# Altium schematic symbol library 10M08SAREVERSIONTEST_Library.SchLib: 3 symbols
Pins are listed as number, name and electrical type; pins without a type are passive.

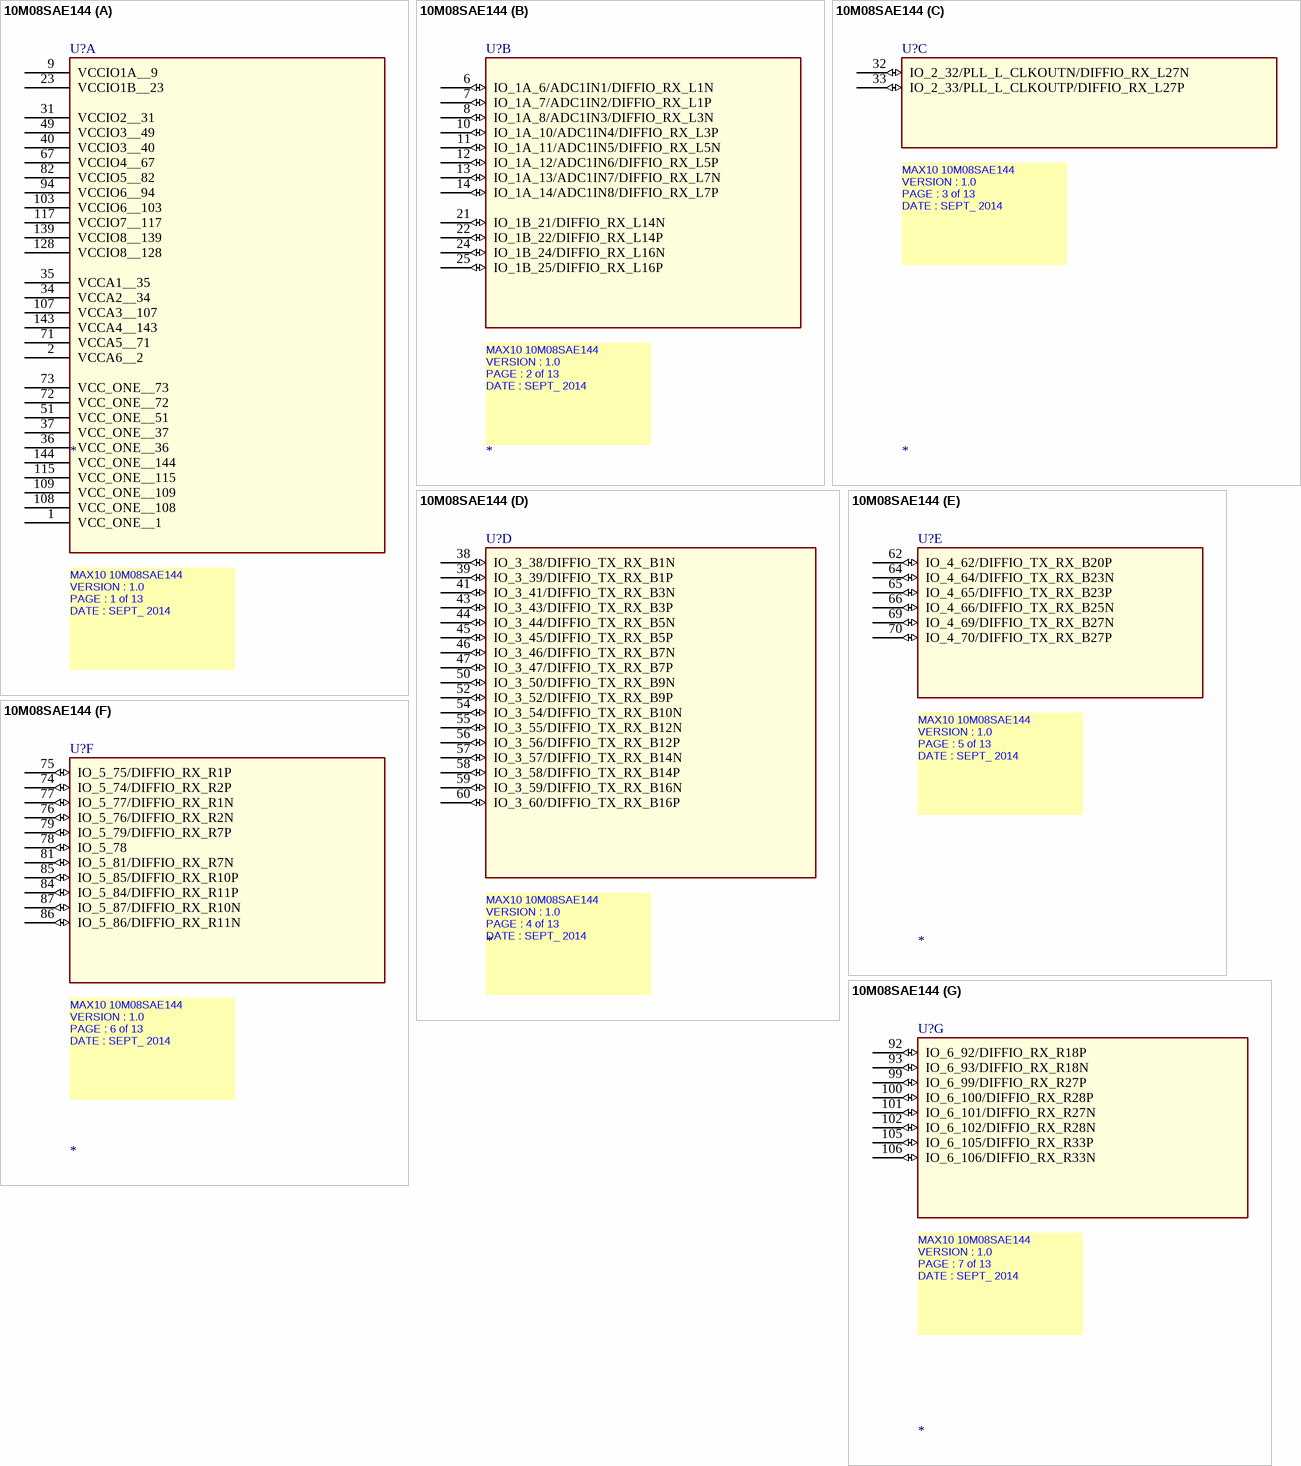
[diagram p0: symbol 10M08SAE144]

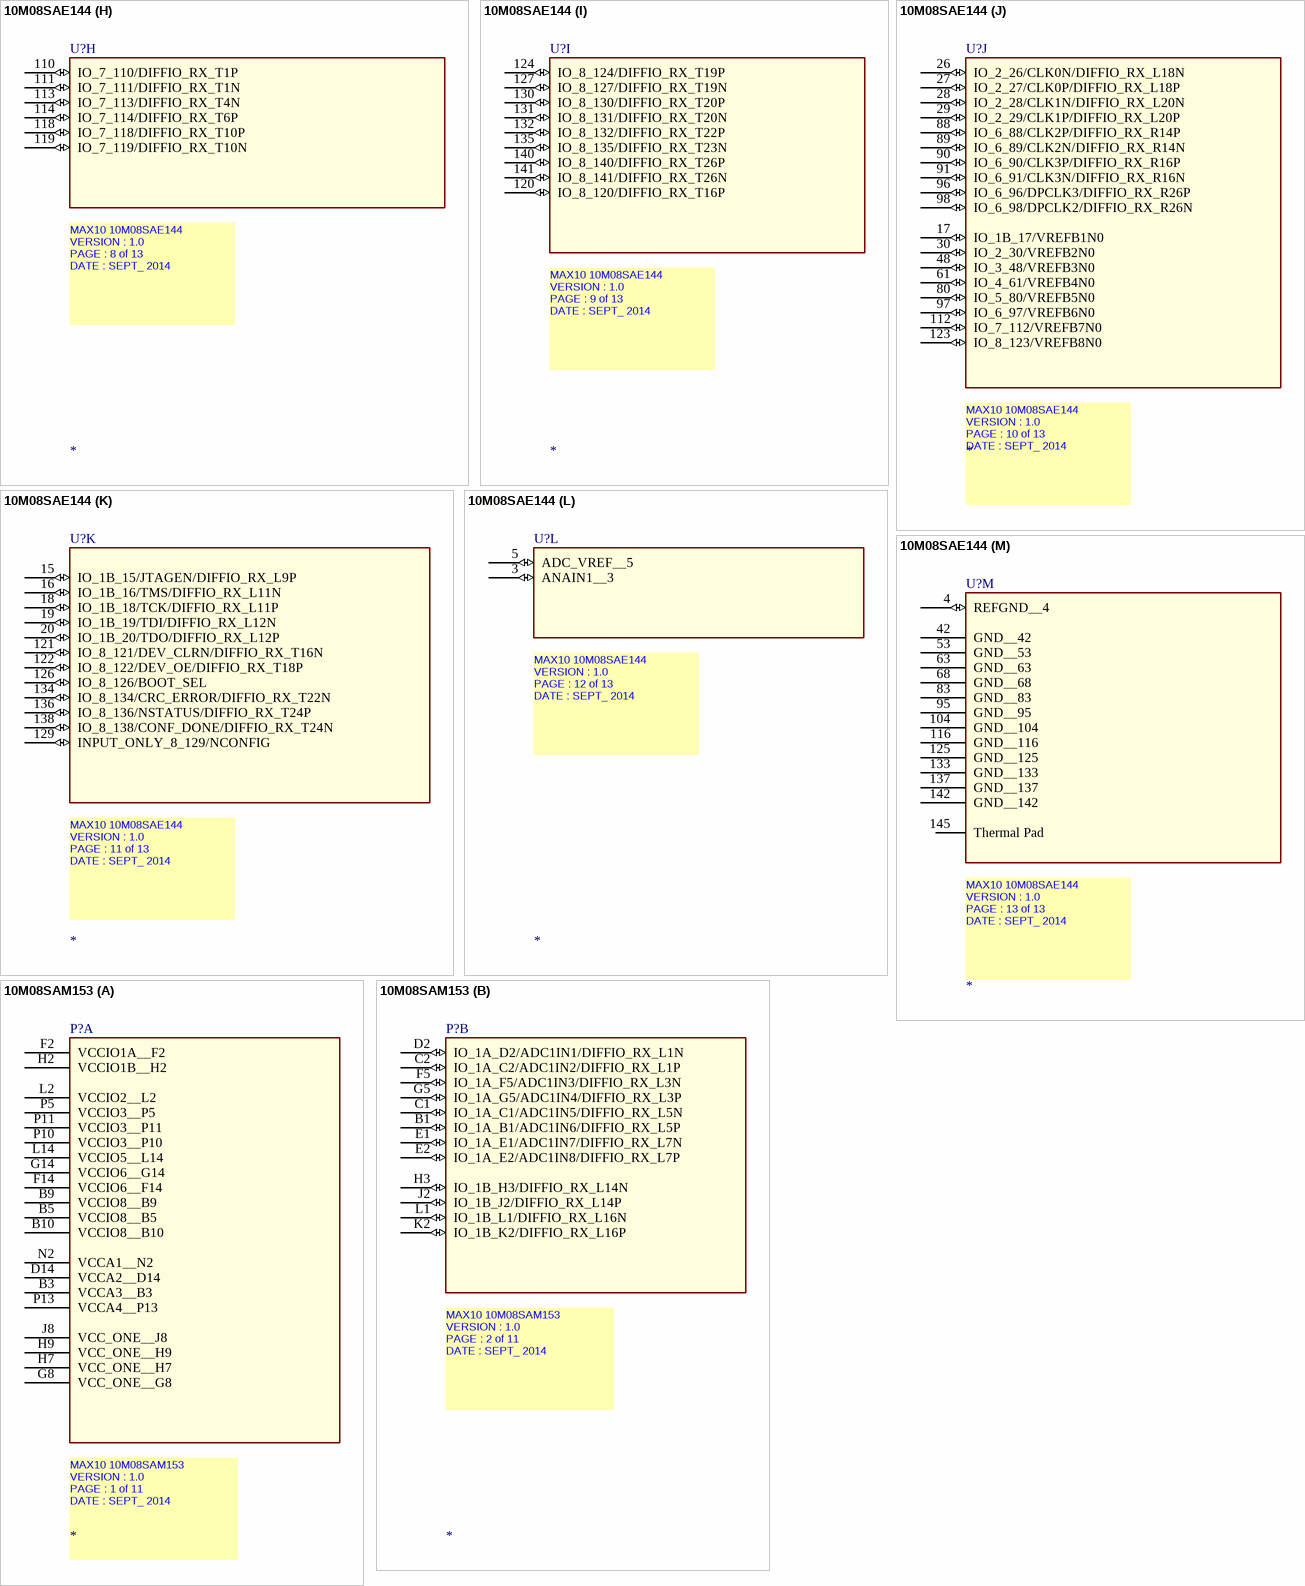
[diagram p1: symbols 10M08SAE144 to 10M08SAM153]

## 10M08SAE144
designator U?
SWAP_INFO: (S1+S2+S3+S4+S5+S6+S7+S8+S9+S10+S11+S12+S13); SPLIT_INST: TRUE
footprint SQFP50P2200X2200X165_HS-145N (SQFP, 144-Leads, Body 20.00x20.00mm, Pitch 0.50mm, Thermal Pad 5.15x5.15mm, IPC Medium Density)
part A pins: 1 VCC_ONE__1 (power), 2 VCCA6__2 (power), 9 VCCIO1A__9 (power), 23 VCCIO1B__23 (power), 31 VCCIO2__31 (power), 34 VCCA2__34 (power), 35 VCCA1__35 (power), 36 VCC_ONE__36 (power), 37 VCC_ONE__37 (power), 40 VCCIO3__40 (power), 49 VCCIO3__49 (power), 51 VCC_ONE__51 (power), 67 VCCIO4__67 (power), 71 VCCA5__71 (power), 72 VCC_ONE__72 (power), 73 VCC_ONE__73 (power), 82 VCCIO5__82 (power), 94 VCCIO6__94 (power), 103 VCCIO6__103 (power), 107 VCCA3__107 (power), 108 VCC_ONE__108 (power), 109 VCC_ONE__109 (power), 115 VCC_ONE__115 (power), 117 VCCIO7__117 (power), 128 VCCIO8__128 (power), 139 VCCIO8__139 (power), 143 VCCA4__143 (power), 144 VCC_ONE__144 (power)
part B pins: 6 IO_1A_6/ADC1IN1/DIFFIO_RX_L1N (io), 7 IO_1A_7/ADC1IN2/DIFFIO_RX_L1P (io), 8 IO_1A_8/ADC1IN3/DIFFIO_RX_L3N (io), 10 IO_1A_10/ADC1IN4/DIFFIO_RX_L3P (io), 11 IO_1A_11/ADC1IN5/DIFFIO_RX_L5N (io), 12 IO_1A_12/ADC1IN6/DIFFIO_RX_L5P (io), 13 IO_1A_13/ADC1IN7/DIFFIO_RX_L7N (io), 14 IO_1A_14/ADC1IN8/DIFFIO_RX_L7P (io), 21 IO_1B_21/DIFFIO_RX_L14N (io), 22 IO_1B_22/DIFFIO_RX_L14P (io), 24 IO_1B_24/DIFFIO_RX_L16N (io), 25 IO_1B_25/DIFFIO_RX_L16P (io)
part C pins: 32 IO_2_32/PLL_L_CLKOUTN/DIFFIO_RX_L27N (io), 33 IO_2_33/PLL_L_CLKOUTP/DIFFIO_RX_L27P (io)
part D pins: 38 IO_3_38/DIFFIO_TX_RX_B1N (io), 39 IO_3_39/DIFFIO_TX_RX_B1P (io), 41 IO_3_41/DIFFIO_TX_RX_B3N (io), 43 IO_3_43/DIFFIO_TX_RX_B3P (io), 44 IO_3_44/DIFFIO_TX_RX_B5N (io), 45 IO_3_45/DIFFIO_TX_RX_B5P (io), 46 IO_3_46/DIFFIO_TX_RX_B7N (io), 47 IO_3_47/DIFFIO_TX_RX_B7P (io), 50 IO_3_50/DIFFIO_TX_RX_B9N (io), 52 IO_3_52/DIFFIO_TX_RX_B9P (io), 54 IO_3_54/DIFFIO_TX_RX_B10N (io), 55 IO_3_55/DIFFIO_TX_RX_B12N (io), 56 IO_3_56/DIFFIO_TX_RX_B12P (io), 57 IO_3_57/DIFFIO_TX_RX_B14N (io), 58 IO_3_58/DIFFIO_TX_RX_B14P (io), 59 IO_3_59/DIFFIO_TX_RX_B16N (io), 60 IO_3_60/DIFFIO_TX_RX_B16P (io)
part E pins: 62 IO_4_62/DIFFIO_TX_RX_B20P (io), 64 IO_4_64/DIFFIO_TX_RX_B23N (io), 65 IO_4_65/DIFFIO_TX_RX_B23P (io), 66 IO_4_66/DIFFIO_TX_RX_B25N (io), 69 IO_4_69/DIFFIO_TX_RX_B27N (io), 70 IO_4_70/DIFFIO_TX_RX_B27P (io)
part F pins: 74 IO_5_74/DIFFIO_RX_R2P (io), 75 IO_5_75/DIFFIO_RX_R1P (io), 76 IO_5_76/DIFFIO_RX_R2N (io), 77 IO_5_77/DIFFIO_RX_R1N (io), 78 IO_5_78 (io), 79 IO_5_79/DIFFIO_RX_R7P (io), 81 IO_5_81/DIFFIO_RX_R7N (io), 84 IO_5_84/DIFFIO_RX_R11P (io), 85 IO_5_85/DIFFIO_RX_R10P (io), 86 IO_5_86/DIFFIO_RX_R11N (io), 87 IO_5_87/DIFFIO_RX_R10N (io)
part G pins: 92 IO_6_92/DIFFIO_RX_R18P (io), 93 IO_6_93/DIFFIO_RX_R18N (io), 99 IO_6_99/DIFFIO_RX_R27P (io), 100 IO_6_100/DIFFIO_RX_R28P (io), 101 IO_6_101/DIFFIO_RX_R27N (io), 102 IO_6_102/DIFFIO_RX_R28N (io), 105 IO_6_105/DIFFIO_RX_R33P (io), 106 IO_6_106/DIFFIO_RX_R33N (io)
part H pins: 110 IO_7_110/DIFFIO_RX_T1P (io), 111 IO_7_111/DIFFIO_RX_T1N (io), 113 IO_7_113/DIFFIO_RX_T4N (io), 114 IO_7_114/DIFFIO_RX_T6P (io), 118 IO_7_118/DIFFIO_RX_T10P (io), 119 IO_7_119/DIFFIO_RX_T10N (io)
part I pins: 120 IO_8_120/DIFFIO_RX_T16P (io), 124 IO_8_124/DIFFIO_RX_T19P (io), 127 IO_8_127/DIFFIO_RX_T19N (io), 130 IO_8_130/DIFFIO_RX_T20P (io), 131 IO_8_131/DIFFIO_RX_T20N (io), 132 IO_8_132/DIFFIO_RX_T22P (io), 135 IO_8_135/DIFFIO_RX_T23N (io), 140 IO_8_140/DIFFIO_RX_T26P (io), 141 IO_8_141/DIFFIO_RX_T26N (io)
part J pins: 17 IO_1B_17/VREFB1N0 (io), 26 IO_2_26/CLK0N/DIFFIO_RX_L18N (io), 27 IO_2_27/CLK0P/DIFFIO_RX_L18P (io), 28 IO_2_28/CLK1N/DIFFIO_RX_L20N (io), 29 IO_2_29/CLK1P/DIFFIO_RX_L20P (io), 30 IO_2_30/VREFB2N0 (io), 48 IO_3_48/VREFB3N0 (io), 61 IO_4_61/VREFB4N0 (io), 80 IO_5_80/VREFB5N0 (io), 88 IO_6_88/CLK2P/DIFFIO_RX_R14P (io), 89 IO_6_89/CLK2N/DIFFIO_RX_R14N (io), 90 IO_6_90/CLK3P/DIFFIO_RX_R16P (io), 91 IO_6_91/CLK3N/DIFFIO_RX_R16N (io), 96 IO_6_96/DPCLK3/DIFFIO_RX_R26P (io), 97 IO_6_97/VREFB6N0 (io), 98 IO_6_98/DPCLK2/DIFFIO_RX_R26N (io), 112 IO_7_112/VREFB7N0 (io), 123 IO_8_123/VREFB8N0 (io)
part K pins: 15 IO_1B_15/JTAGEN/DIFFIO_RX_L9P (io), 16 IO_1B_16/TMS/DIFFIO_RX_L11N (io), 18 IO_1B_18/TCK/DIFFIO_RX_L11P (io), 19 IO_1B_19/TDI/DIFFIO_RX_L12N (io), 20 IO_1B_20/TDO/DIFFIO_RX_L12P (io), 121 IO_8_121/DEV_CLRN/DIFFIO_RX_T16N (io), 122 IO_8_122/DEV_OE/DIFFIO_RX_T18P (io), 126 IO_8_126/BOOT_SEL (io), 129 INPUT_ONLY_8_129/NCONFIG (io), 134 IO_8_134/CRC_ERROR/DIFFIO_RX_T22N (io), 136 IO_8_136/NSTATUS/DIFFIO_RX_T24P (io), 138 IO_8_138/CONF_DONE/DIFFIO_RX_T24N (io)
part L pins: 3 ANAIN1__3 (io), 5 ADC_VREF__5 (io)
part M pins: 4 REFGND__4 (io), 42 GND__42 (power), 53 GND__53 (power), 63 GND__63 (power), 68 GND__68 (power), 83 GND__83 (power), 95 GND__95 (power), 104 GND__104 (power), 116 GND__116 (power), 125 GND__125 (power), 133 GND__133 (power), 137 GND__137 (power), 142 GND__142 (power), 145 Thermal Pad
part A text: MAX10 10M08SAE144 / VERSION : 1.0 / PAGE : 1 of 13 / DATE : SEPT_ 2014 /
part B text: MAX10 10M08SAE144 / VERSION : 1.0 / PAGE : 2 of 13 / DATE : SEPT_ 2014 /
part C text: MAX10 10M08SAE144 / VERSION : 1.0 / PAGE : 3 of 13 / DATE : SEPT_ 2014 /
part D text: MAX10 10M08SAE144 / VERSION : 1.0 / PAGE : 4 of 13 / DATE : SEPT_ 2014 /
part E text: MAX10 10M08SAE144 / VERSION : 1.0 / PAGE : 5 of 13 / DATE : SEPT_ 2014 /
part F text: MAX10 10M08SAE144 / VERSION : 1.0 / PAGE : 6 of 13 / DATE : SEPT_ 2014 /
part G text: MAX10 10M08SAE144 / VERSION : 1.0 / PAGE : 7 of 13 / DATE : SEPT_ 2014 /
part H text: MAX10 10M08SAE144 / VERSION : 1.0 / PAGE : 8 of 13 / DATE : SEPT_ 2014 /
part I text: MAX10 10M08SAE144 / VERSION : 1.0 / PAGE : 9 of 13 / DATE : SEPT_ 2014 /
part J text: MAX10 10M08SAE144 / VERSION : 1.0 / PAGE : 10 of 13 / DATE : SEPT_ 2014 /
part K text: MAX10 10M08SAE144 / VERSION : 1.0 / PAGE : 11 of 13 / DATE : SEPT_ 2014 /
part L text: MAX10 10M08SAE144 / VERSION : 1.0 / PAGE : 12 of 13 / DATE : SEPT_ 2014 /
part M text: MAX10 10M08SAE144 / VERSION : 1.0 / PAGE : 13 of 13 / DATE : SEPT_ 2014 /

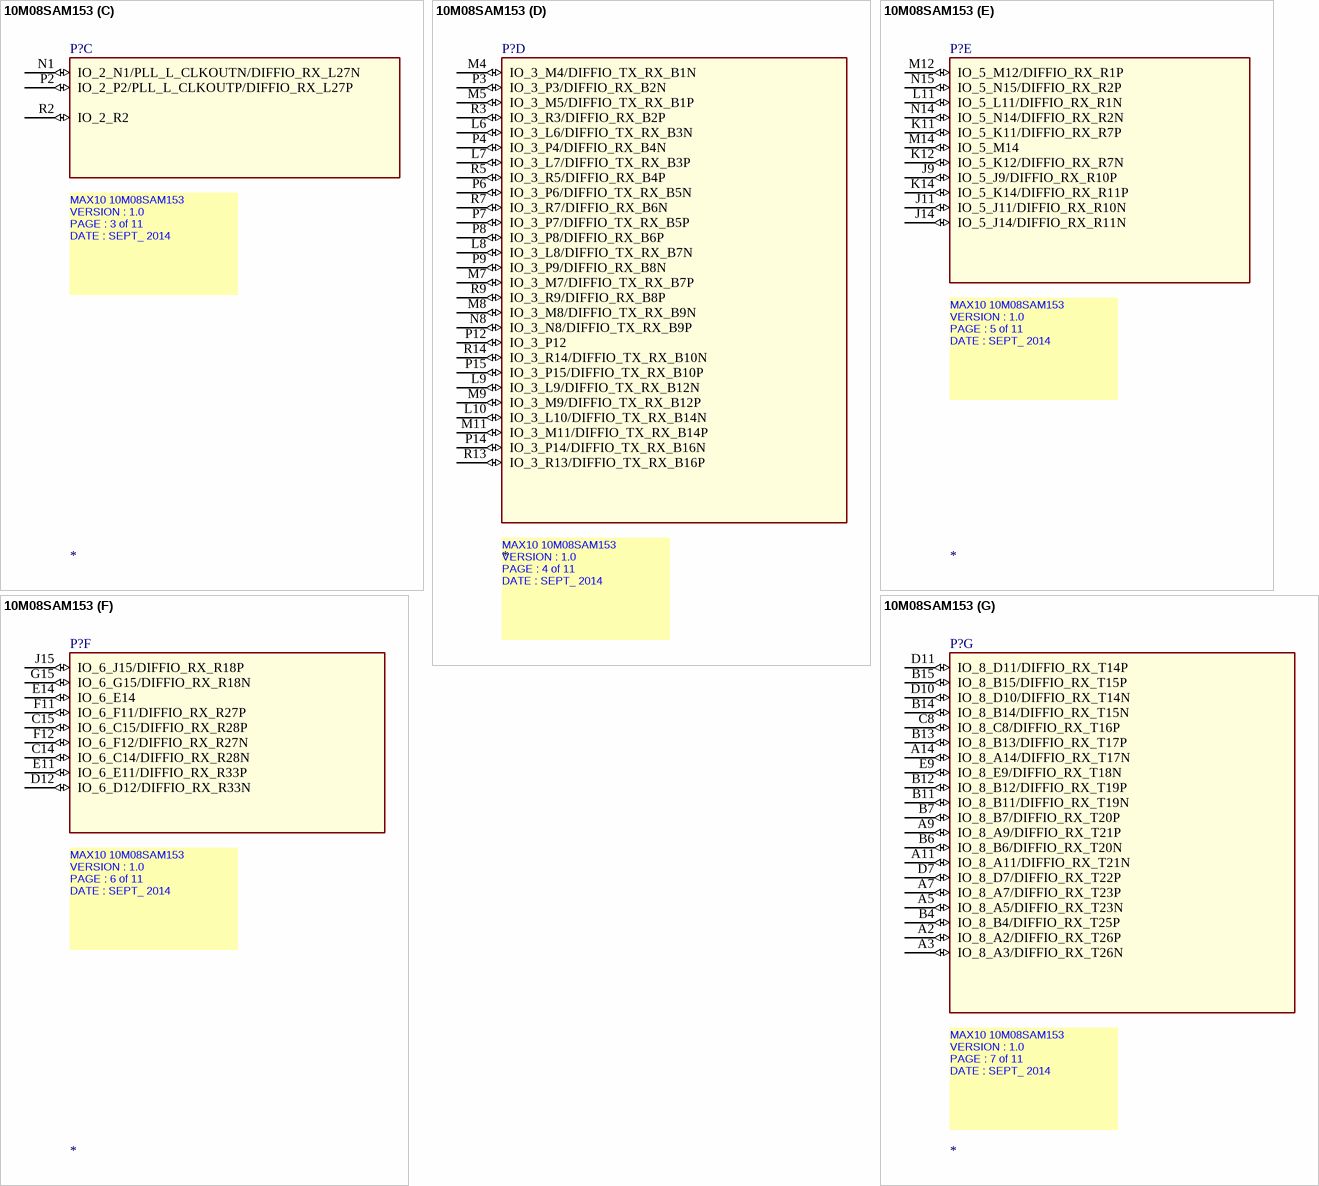
[diagram p2: symbol 10M08SAM153]

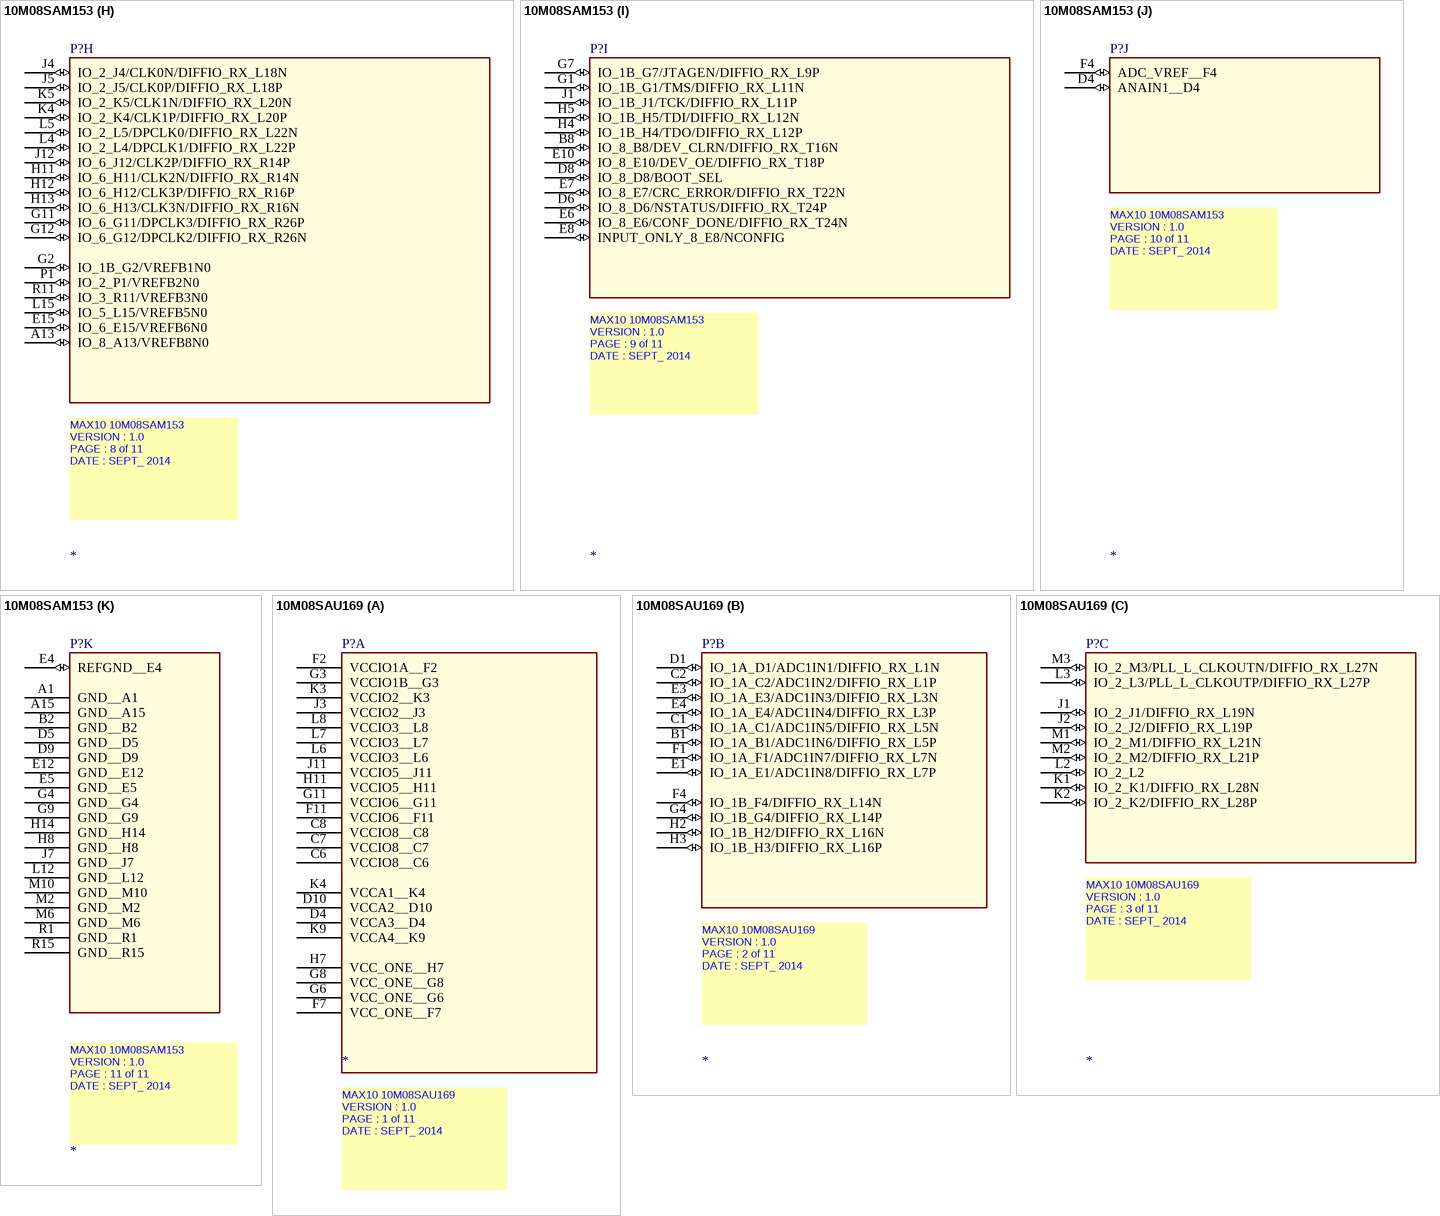
[diagram p3: symbols 10M08SAM153 to 10M08SAU169]

## 10M08SAM153
designator P?
SWAP_INFO: (S1+S2+S3+S4+S5+S6+S7+S8+S9+S10+S11); SPLIT_INST: TRUE
part A pins: B3 VCCA3__B3 (power), B5 VCCIO8__B5 (power), B9 VCCIO8__B9 (power), B10 VCCIO8__B10 (power), D14 VCCA2__D14 (power), F2 VCCIO1A__F2 (power), F14 VCCIO6__F14 (power), G8 VCC_ONE__G8 (power), G14 VCCIO6__G14 (power), H2 VCCIO1B__H2 (power), H7 VCC_ONE__H7 (power), H9 VCC_ONE__H9 (power), J8 VCC_ONE__J8 (power), L2 VCCIO2__L2 (power), L14 VCCIO5__L14 (power), N2 VCCA1__N2 (power), P5 VCCIO3__P5 (power), P10 VCCIO3__P10 (power), P11 VCCIO3__P11 (power), P13 VCCA4__P13 (power)
part B pins: B1 IO_1A_B1/ADC1IN6/DIFFIO_RX_L5P (io), C1 IO_1A_C1/ADC1IN5/DIFFIO_RX_L5N (io), C2 IO_1A_C2/ADC1IN2/DIFFIO_RX_L1P (io), D2 IO_1A_D2/ADC1IN1/DIFFIO_RX_L1N (io), E1 IO_1A_E1/ADC1IN7/DIFFIO_RX_L7N (io), E2 IO_1A_E2/ADC1IN8/DIFFIO_RX_L7P (io), F5 IO_1A_F5/ADC1IN3/DIFFIO_RX_L3N (io), G5 IO_1A_G5/ADC1IN4/DIFFIO_RX_L3P (io), H3 IO_1B_H3/DIFFIO_RX_L14N (io), J2 IO_1B_J2/DIFFIO_RX_L14P (io), K2 IO_1B_K2/DIFFIO_RX_L16P (io), L1 IO_1B_L1/DIFFIO_RX_L16N (io)
part C pins: N1 IO_2_N1/PLL_L_CLKOUTN/DIFFIO_RX_L27N (io), P2 IO_2_P2/PLL_L_CLKOUTP/DIFFIO_RX_L27P (io), R2 IO_2_R2 (io)
part D pins: L6 IO_3_L6/DIFFIO_TX_RX_B3N (io), L7 IO_3_L7/DIFFIO_TX_RX_B3P (io), L8 IO_3_L8/DIFFIO_TX_RX_B7N (io), L9 IO_3_L9/DIFFIO_TX_RX_B12N (io), L10 IO_3_L10/DIFFIO_TX_RX_B14N (io), M4 IO_3_M4/DIFFIO_TX_RX_B1N (io), M5 IO_3_M5/DIFFIO_TX_RX_B1P (io), M7 IO_3_M7/DIFFIO_TX_RX_B7P (io), M8 IO_3_M8/DIFFIO_TX_RX_B9N (io), M9 IO_3_M9/DIFFIO_TX_RX_B12P (io), M11 IO_3_M11/DIFFIO_TX_RX_B14P (io), N8 IO_3_N8/DIFFIO_TX_RX_B9P (io), P3 IO_3_P3/DIFFIO_RX_B2N (io), P4 IO_3_P4/DIFFIO_RX_B4N (io), P6 IO_3_P6/DIFFIO_TX_RX_B5N (io), P7 IO_3_P7/DIFFIO_TX_RX_B5P (io), P8 IO_3_P8/DIFFIO_RX_B6P (io), P9 IO_3_P9/DIFFIO_RX_B8N (io), P12 IO_3_P12 (io), P14 IO_3_P14/DIFFIO_TX_RX_B16N (io), P15 IO_3_P15/DIFFIO_TX_RX_B10P (io), R3 IO_3_R3/DIFFIO_RX_B2P (io), R5 IO_3_R5/DIFFIO_RX_B4P (io), R7 IO_3_R7/DIFFIO_RX_B6N (io), R9 IO_3_R9/DIFFIO_RX_B8P (io), R13 IO_3_R13/DIFFIO_TX_RX_B16P (io), R14 IO_3_R14/DIFFIO_TX_RX_B10N (io)
part E pins: J9 IO_5_J9/DIFFIO_RX_R10P (io), J11 IO_5_J11/DIFFIO_RX_R10N (io), J14 IO_5_J14/DIFFIO_RX_R11N (io), K11 IO_5_K11/DIFFIO_RX_R7P (io), K12 IO_5_K12/DIFFIO_RX_R7N (io), K14 IO_5_K14/DIFFIO_RX_R11P (io), L11 IO_5_L11/DIFFIO_RX_R1N (io), M12 IO_5_M12/DIFFIO_RX_R1P (io), M14 IO_5_M14 (io), N14 IO_5_N14/DIFFIO_RX_R2N (io), N15 IO_5_N15/DIFFIO_RX_R2P (io)
part F pins: C14 IO_6_C14/DIFFIO_RX_R28N (io), C15 IO_6_C15/DIFFIO_RX_R28P (io), D12 IO_6_D12/DIFFIO_RX_R33N (io), E11 IO_6_E11/DIFFIO_RX_R33P (io), E14 IO_6_E14 (io), F11 IO_6_F11/DIFFIO_RX_R27P (io), F12 IO_6_F12/DIFFIO_RX_R27N (io), G15 IO_6_G15/DIFFIO_RX_R18N (io), J15 IO_6_J15/DIFFIO_RX_R18P (io)
part G pins: A2 IO_8_A2/DIFFIO_RX_T26P (io), A3 IO_8_A3/DIFFIO_RX_T26N (io), A5 IO_8_A5/DIFFIO_RX_T23N (io), A7 IO_8_A7/DIFFIO_RX_T23P (io), A9 IO_8_A9/DIFFIO_RX_T21P (io), A11 IO_8_A11/DIFFIO_RX_T21N (io), A14 IO_8_A14/DIFFIO_RX_T17N (io), B4 IO_8_B4/DIFFIO_RX_T25P (io), B6 IO_8_B6/DIFFIO_RX_T20N (io), B7 IO_8_B7/DIFFIO_RX_T20P (io), B11 IO_8_B11/DIFFIO_RX_T19N (io), B12 IO_8_B12/DIFFIO_RX_T19P (io), B13 IO_8_B13/DIFFIO_RX_T17P (io), B14 IO_8_B14/DIFFIO_RX_T15N (io), B15 IO_8_B15/DIFFIO_RX_T15P (io), C8 IO_8_C8/DIFFIO_RX_T16P (io), D7 IO_8_D7/DIFFIO_RX_T22P (io), D10 IO_8_D10/DIFFIO_RX_T14N (io), D11 IO_8_D11/DIFFIO_RX_T14P (io), E9 IO_8_E9/DIFFIO_RX_T18N (io)
part H pins: A13 IO_8_A13/VREFB8N0 (io), E15 IO_6_E15/VREFB6N0 (io), G2 IO_1B_G2/VREFB1N0 (io), G11 IO_6_G11/DPCLK3/DIFFIO_RX_R26P (io), G12 IO_6_G12/DPCLK2/DIFFIO_RX_R26N (io), H11 IO_6_H11/CLK2N/DIFFIO_RX_R14N (io), H12 IO_6_H12/CLK3P/DIFFIO_RX_R16P (io), H13 IO_6_H13/CLK3N/DIFFIO_RX_R16N (io), J4 IO_2_J4/CLK0N/DIFFIO_RX_L18N (io), J5 IO_2_J5/CLK0P/DIFFIO_RX_L18P (io), J12 IO_6_J12/CLK2P/DIFFIO_RX_R14P (io), K4 IO_2_K4/CLK1P/DIFFIO_RX_L20P (io), K5 IO_2_K5/CLK1N/DIFFIO_RX_L20N (io), L4 IO_2_L4/DPCLK1/DIFFIO_RX_L22P (io), L5 IO_2_L5/DPCLK0/DIFFIO_RX_L22N (io), L15 IO_5_L15/VREFB5N0 (io), P1 IO_2_P1/VREFB2N0 (io), R11 IO_3_R11/VREFB3N0 (io)
part I pins: B8 IO_8_B8/DEV_CLRN/DIFFIO_RX_T16N (io), D6 IO_8_D6/NSTATUS/DIFFIO_RX_T24P (io), D8 IO_8_D8/BOOT_SEL (io), E6 IO_8_E6/CONF_DONE/DIFFIO_RX_T24N (io), E7 IO_8_E7/CRC_ERROR/DIFFIO_RX_T22N (io), E8 INPUT_ONLY_8_E8/NCONFIG (io), E10 IO_8_E10/DEV_OE/DIFFIO_RX_T18P (io), G1 IO_1B_G1/TMS/DIFFIO_RX_L11N (io), G7 IO_1B_G7/JTAGEN/DIFFIO_RX_L9P (io), H4 IO_1B_H4/TDO/DIFFIO_RX_L12P (io), H5 IO_1B_H5/TDI/DIFFIO_RX_L12N (io), J1 IO_1B_J1/TCK/DIFFIO_RX_L11P (io)
part J pins: D4 ANAIN1__D4 (io), F4 ADC_VREF__F4 (io)
part K pins: A1 GND__A1 (power), A15 GND__A15 (power), B2 GND__B2 (power), D5 GND__D5 (power), D9 GND__D9 (power), E4 REFGND__E4 (io), E5 GND__E5 (power), E12 GND__E12 (power), G4 GND__G4 (power), G9 GND__G9 (power), H8 GND__H8 (power), H14 GND__H14 (power), J7 GND__J7 (power), L12 GND__L12 (power), M2 GND__M2 (power), M6 GND__M6 (power), M10 GND__M10 (power), R1 GND__R1 (power), R15 GND__R15 (power)
part A text: MAX10 10M08SAM153 / VERSION : 1.0 / PAGE : 1 of 11 / DATE : SEPT_ 2014 /
part B text: MAX10 10M08SAM153 / VERSION : 1.0 / PAGE : 2 of 11 / DATE : SEPT_ 2014 /
part C text: MAX10 10M08SAM153 / VERSION : 1.0 / PAGE : 3 of 11 / DATE : SEPT_ 2014 /
part D text: MAX10 10M08SAM153 / VERSION : 1.0 / PAGE : 4 of 11 / DATE : SEPT_ 2014 /
part E text: MAX10 10M08SAM153 / VERSION : 1.0 / PAGE : 5 of 11 / DATE : SEPT_ 2014 /
part F text: MAX10 10M08SAM153 / VERSION : 1.0 / PAGE : 6 of 11 / DATE : SEPT_ 2014 /
part G text: MAX10 10M08SAM153 / VERSION : 1.0 / PAGE : 7 of 11 / DATE : SEPT_ 2014 /
part H text: MAX10 10M08SAM153 / VERSION : 1.0 / PAGE : 8 of 11 / DATE : SEPT_ 2014 /
part I text: MAX10 10M08SAM153 / VERSION : 1.0 / PAGE : 9 of 11 / DATE : SEPT_ 2014 /
part J text: MAX10 10M08SAM153 / VERSION : 1.0 / PAGE : 10 of 11 / DATE : SEPT_ 2014 /
part K text: MAX10 10M08SAM153 / VERSION : 1.0 / PAGE : 11 of 11 / DATE : SEPT_ 2014 /

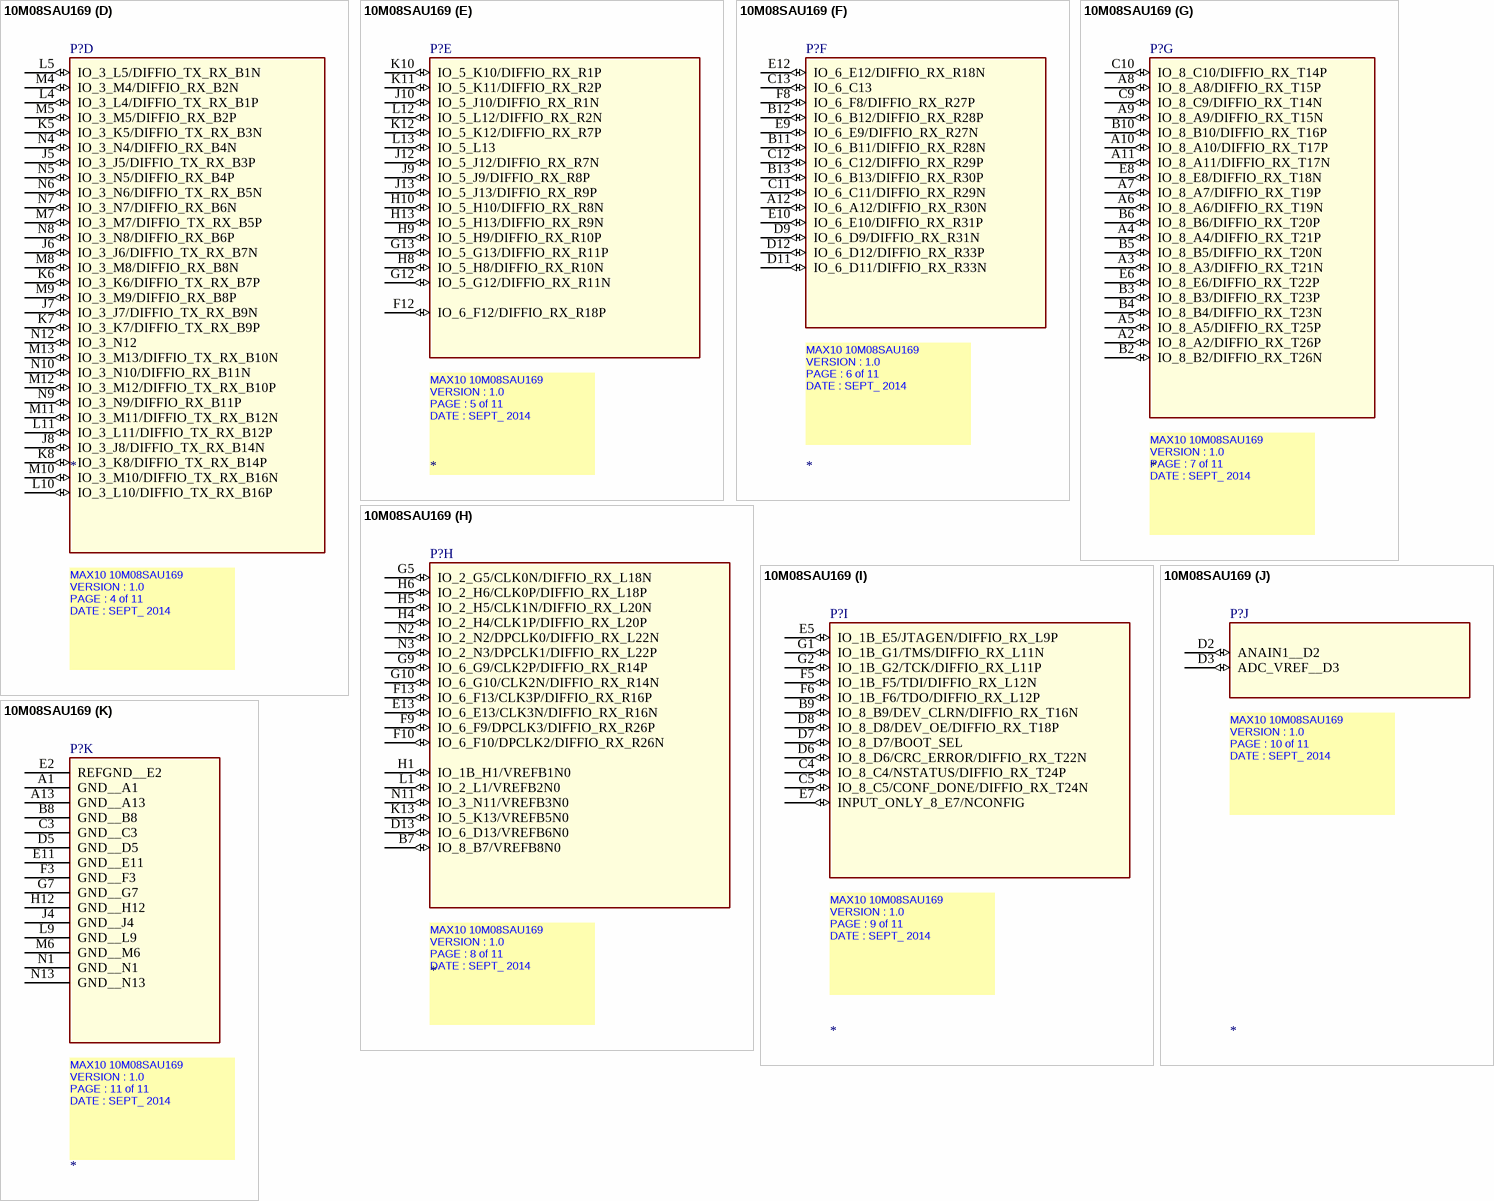
[diagram p4: symbol 10M08SAU169]

## 10M08SAU169
designator P?
SWAP_INFO: (S1+S2+S3+S4+S5+S6+S7+S8+S9+S10+S11); SPLIT_INST: TRUE
part A pins: C6 VCCIO8__C6 (power), C7 VCCIO8__C7 (power), C8 VCCIO8__C8 (power), D4 VCCA3__D4 (power), D10 VCCA2__D10 (power), F2 VCCIO1A__F2 (power), F7 VCC_ONE__F7 (power), F11 VCCIO6__F11 (power), G3 VCCIO1B__G3 (power), G6 VCC_ONE__G6 (power), G8 VCC_ONE__G8 (power), G11 VCCIO6__G11 (power), H7 VCC_ONE__H7 (power), H11 VCCIO5__H11 (power), J3 VCCIO2__J3 (power), J11 VCCIO5__J11 (power), K3 VCCIO2__K3 (power), K4 VCCA1__K4 (power), K9 VCCA4__K9 (power), L6 VCCIO3__L6 (power), L7 VCCIO3__L7 (power), L8 VCCIO3__L8 (power)
part B pins: B1 IO_1A_B1/ADC1IN6/DIFFIO_RX_L5P (io), C1 IO_1A_C1/ADC1IN5/DIFFIO_RX_L5N (io), C2 IO_1A_C2/ADC1IN2/DIFFIO_RX_L1P (io), D1 IO_1A_D1/ADC1IN1/DIFFIO_RX_L1N (io), E1 IO_1A_E1/ADC1IN8/DIFFIO_RX_L7P (io), E3 IO_1A_E3/ADC1IN3/DIFFIO_RX_L3N (io), E4 IO_1A_E4/ADC1IN4/DIFFIO_RX_L3P (io), F1 IO_1A_F1/ADC1IN7/DIFFIO_RX_L7N (io), F4 IO_1B_F4/DIFFIO_RX_L14N (io), G4 IO_1B_G4/DIFFIO_RX_L14P (io), H2 IO_1B_H2/DIFFIO_RX_L16N (io), H3 IO_1B_H3/DIFFIO_RX_L16P (io)
part C pins: J1 IO_2_J1/DIFFIO_RX_L19N (io), J2 IO_2_J2/DIFFIO_RX_L19P (io), K1 IO_2_K1/DIFFIO_RX_L28N (io), K2 IO_2_K2/DIFFIO_RX_L28P (io), L2 IO_2_L2 (io), L3 IO_2_L3/PLL_L_CLKOUTP/DIFFIO_RX_L27P (io), M1 IO_2_M1/DIFFIO_RX_L21N (io), M2 IO_2_M2/DIFFIO_RX_L21P (io), M3 IO_2_M3/PLL_L_CLKOUTN/DIFFIO_RX_L27N (io)
part D pins: J5 IO_3_J5/DIFFIO_TX_RX_B3P (io), J6 IO_3_J6/DIFFIO_TX_RX_B7N (io), J7 IO_3_J7/DIFFIO_TX_RX_B9N (io), J8 IO_3_J8/DIFFIO_TX_RX_B14N (io), K5 IO_3_K5/DIFFIO_TX_RX_B3N (io), K6 IO_3_K6/DIFFIO_TX_RX_B7P (io), K7 IO_3_K7/DIFFIO_TX_RX_B9P (io), K8 IO_3_K8/DIFFIO_TX_RX_B14P (io), L4 IO_3_L4/DIFFIO_TX_RX_B1P (io), L5 IO_3_L5/DIFFIO_TX_RX_B1N (io), L10 IO_3_L10/DIFFIO_TX_RX_B16P (io), L11 IO_3_L11/DIFFIO_TX_RX_B12P (io), M4 IO_3_M4/DIFFIO_RX_B2N (io), M5 IO_3_M5/DIFFIO_RX_B2P (io), M7 IO_3_M7/DIFFIO_TX_RX_B5P (io), M8 IO_3_M8/DIFFIO_RX_B8N (io), M9 IO_3_M9/DIFFIO_RX_B8P (io), M10 IO_3_M10/DIFFIO_TX_RX_B16N (io), M11 IO_3_M11/DIFFIO_TX_RX_B12N (io), M12 IO_3_M12/DIFFIO_TX_RX_B10P (io), M13 IO_3_M13/DIFFIO_TX_RX_B10N (io), N4 IO_3_N4/DIFFIO_RX_B4N (io), N5 IO_3_N5/DIFFIO_RX_B4P (io), N6 IO_3_N6/DIFFIO_TX_RX_B5N (io), N7 IO_3_N7/DIFFIO_RX_B6N (io), N8 IO_3_N8/DIFFIO_RX_B6P (io), N9 IO_3_N9/DIFFIO_RX_B11P (io), N10 IO_3_N10/DIFFIO_RX_B11N (io), N12 IO_3_N12 (io)
part E pins: F12 IO_6_F12/DIFFIO_RX_R18P (io), G12 IO_5_G12/DIFFIO_RX_R11N (io), G13 IO_5_G13/DIFFIO_RX_R11P (io), H8 IO_5_H8/DIFFIO_RX_R10N (io), H9 IO_5_H9/DIFFIO_RX_R10P (io), H10 IO_5_H10/DIFFIO_RX_R8N (io), H13 IO_5_H13/DIFFIO_RX_R9N (io), J9 IO_5_J9/DIFFIO_RX_R8P (io), J10 IO_5_J10/DIFFIO_RX_R1N (io), J12 IO_5_J12/DIFFIO_RX_R7N (io), J13 IO_5_J13/DIFFIO_RX_R9P (io), K10 IO_5_K10/DIFFIO_RX_R1P (io), K11 IO_5_K11/DIFFIO_RX_R2P (io), K12 IO_5_K12/DIFFIO_RX_R7P (io), L12 IO_5_L12/DIFFIO_RX_R2N (io), L13 IO_5_L13 (io)
part F pins: A12 IO_6_A12/DIFFIO_RX_R30N (io), B11 IO_6_B11/DIFFIO_RX_R28N (io), B12 IO_6_B12/DIFFIO_RX_R28P (io), B13 IO_6_B13/DIFFIO_RX_R30P (io), C11 IO_6_C11/DIFFIO_RX_R29N (io), C12 IO_6_C12/DIFFIO_RX_R29P (io), C13 IO_6_C13 (io), D9 IO_6_D9/DIFFIO_RX_R31N (io), D11 IO_6_D11/DIFFIO_RX_R33N (io), D12 IO_6_D12/DIFFIO_RX_R33P (io), E9 IO_6_E9/DIFFIO_RX_R27N (io), E10 IO_6_E10/DIFFIO_RX_R31P (io), E12 IO_6_E12/DIFFIO_RX_R18N (io), F8 IO_6_F8/DIFFIO_RX_R27P (io)
part G pins: A2 IO_8_A2/DIFFIO_RX_T26P (io), A3 IO_8_A3/DIFFIO_RX_T21N (io), A4 IO_8_A4/DIFFIO_RX_T21P (io), A5 IO_8_A5/DIFFIO_RX_T25P (io), A6 IO_8_A6/DIFFIO_RX_T19N (io), A7 IO_8_A7/DIFFIO_RX_T19P (io), A8 IO_8_A8/DIFFIO_RX_T15P (io), A9 IO_8_A9/DIFFIO_RX_T15N (io), A10 IO_8_A10/DIFFIO_RX_T17P (io), A11 IO_8_A11/DIFFIO_RX_T17N (io), B2 IO_8_B2/DIFFIO_RX_T26N (io), B3 IO_8_B3/DIFFIO_RX_T23P (io), B4 IO_8_B4/DIFFIO_RX_T23N (io), B5 IO_8_B5/DIFFIO_RX_T20N (io), B6 IO_8_B6/DIFFIO_RX_T20P (io), B10 IO_8_B10/DIFFIO_RX_T16P (io), C9 IO_8_C9/DIFFIO_RX_T14N (io), C10 IO_8_C10/DIFFIO_RX_T14P (io), E6 IO_8_E6/DIFFIO_RX_T22P (io), E8 IO_8_E8/DIFFIO_RX_T18N (io)
part H pins: B7 IO_8_B7/VREFB8N0 (io), D13 IO_6_D13/VREFB6N0 (io), E13 IO_6_E13/CLK3N/DIFFIO_RX_R16N (io), F9 IO_6_F9/DPCLK3/DIFFIO_RX_R26P (io), F10 IO_6_F10/DPCLK2/DIFFIO_RX_R26N (io), F13 IO_6_F13/CLK3P/DIFFIO_RX_R16P (io), G5 IO_2_G5/CLK0N/DIFFIO_RX_L18N (io), G9 IO_6_G9/CLK2P/DIFFIO_RX_R14P (io), G10 IO_6_G10/CLK2N/DIFFIO_RX_R14N (io), H1 IO_1B_H1/VREFB1N0 (io), H4 IO_2_H4/CLK1P/DIFFIO_RX_L20P (io), H5 IO_2_H5/CLK1N/DIFFIO_RX_L20N (io), H6 IO_2_H6/CLK0P/DIFFIO_RX_L18P (io), K13 IO_5_K13/VREFB5N0 (io), L1 IO_2_L1/VREFB2N0 (io), N2 IO_2_N2/DPCLK0/DIFFIO_RX_L22N (io), N3 IO_2_N3/DPCLK1/DIFFIO_RX_L22P (io), N11 IO_3_N11/VREFB3N0 (io)
part I pins: B9 IO_8_B9/DEV_CLRN/DIFFIO_RX_T16N (io), C4 IO_8_C4/NSTATUS/DIFFIO_RX_T24P (io), C5 IO_8_C5/CONF_DONE/DIFFIO_RX_T24N (io), D6 IO_8_D6/CRC_ERROR/DIFFIO_RX_T22N (io), D7 IO_8_D7/BOOT_SEL (io), D8 IO_8_D8/DEV_OE/DIFFIO_RX_T18P (io), E5 IO_1B_E5/JTAGEN/DIFFIO_RX_L9P (io), E7 INPUT_ONLY_8_E7/NCONFIG (io), F5 IO_1B_F5/TDI/DIFFIO_RX_L12N (io), F6 IO_1B_F6/TDO/DIFFIO_RX_L12P (io), G1 IO_1B_G1/TMS/DIFFIO_RX_L11N (io), G2 IO_1B_G2/TCK/DIFFIO_RX_L11P (io)
part J pins: D2 ANAIN1__D2 (io), D3 ADC_VREF__D3 (io)
part K pins: A1 GND__A1 (power), A13 GND__A13 (power), B8 GND__B8 (power), C3 GND__C3 (power), D5 GND__D5 (power), E2 REFGND__E2 (power), E11 GND__E11 (power), F3 GND__F3 (power), G7 GND__G7 (power), H12 GND__H12 (power), J4 GND__J4 (power), L9 GND__L9 (power), M6 GND__M6 (power), N1 GND__N1 (power), N13 GND__N13 (power)
part A text: MAX10 10M08SAU169 / VERSION : 1.0 / PAGE : 1 of 11 / DATE : SEPT_ 2014 /
part B text: MAX10 10M08SAU169 / VERSION : 1.0 / PAGE : 2 of 11 / DATE : SEPT_ 2014 /
part C text: MAX10 10M08SAU169 / VERSION : 1.0 / PAGE : 3 of 11 / DATE : SEPT_ 2014 /
part D text: MAX10 10M08SAU169 / VERSION : 1.0 / PAGE : 4 of 11 / DATE : SEPT_ 2014 /
part E text: MAX10 10M08SAU169 / VERSION : 1.0 / PAGE : 5 of 11 / DATE : SEPT_ 2014 /
part F text: MAX10 10M08SAU169 / VERSION : 1.0 / PAGE : 6 of 11 / DATE : SEPT_ 2014 /
part G text: MAX10 10M08SAU169 / VERSION : 1.0 / PAGE : 7 of 11 / DATE : SEPT_ 2014 /
part H text: MAX10 10M08SAU169 / VERSION : 1.0 / PAGE : 8 of 11 / DATE : SEPT_ 2014 /
part I text: MAX10 10M08SAU169 / VERSION : 1.0 / PAGE : 9 of 11 / DATE : SEPT_ 2014 /
part J text: MAX10 10M08SAU169 / VERSION : 1.0 / PAGE : 10 of 11 / DATE : SEPT_ 2014 /
part K text: MAX10 10M08SAU169 / VERSION : 1.0 / PAGE : 11 of 11 / DATE : SEPT_ 2014 /